# Altium schematic symbol library ultrasoon.SchLib: 1 symbol
Pins are listed as number, name and electrical type; pins without a type are passive.

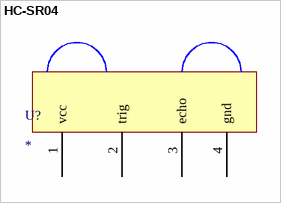
[diagram p0: symbol HC-SR04]

## HC-SR04
designator U?
footprint ultrasoonSensor
pins: 1 vcc, 2 trig, 3 echo, 4 gnd